# Altium schematic symbol library Oscillators.SchLib: 2 symbols
Pins are listed as number, name and electrical type; pins without a type are passive.

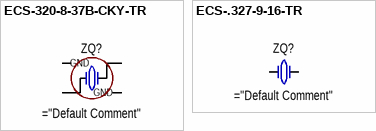
[diagram p0: symbols ECS-320-8-37B-CKY-TR to ECS-.327-9-16-TR]

## ECS-320-8-37B-CKY-TR
designator ZQ?
CRYSTAL 32.0000MHZ 8PF SMD; Manufacturer: ECS Inc.; Part Number: ECS-320-8-37B-CKY-TR; Power Dissipation: * W; Rated Voltage: * V; Rated Current: * A; Tolerance: 10 ppm; Other: 32 MHz ±10ppm Crystal 8pF 50 Ohms 4-SMD, No Lead; Case: 4-SMD; Operating Temperature: -30 °C to +85 °C; Type: Oscillator; HelpURL: https://www.digikey.com/en/products/detail/ecs-inc/ECS-320-8-37B-CKY-TR/9838854; Default Comment: 32.0000 MHz; Rated Power: * W; Value: 32.0000 MHz; Summary: ="Type"+" "+"Part Number"+" "+"Manufacturer"+" "+"Value"+" "+"Tolerance"+" "+"Operating Temperature"+" "+"Case"+" "+"Power Dissipation"+" "+"Rated Current"+" "+"Rated Power"+" "+"Rated Voltage"+" "+"Other"; Assembly: *
footprint ECS-320-8-37B-CKY-TR (32 MHz ±10ppm Crystal 8pF 50 Ohms 4-SMD, No Lead)
pins: 1, 2, 3, 4
text: GND

## ECS-.327-9-16-TR
designator ZQ?
CRYSTAL 32.7680KHZ 9PF SMD; Manufacturer: ECS Inc.; Part Number: ECS-.327-9-16-TR; Default Comment: 32.768 kHz; Power Dissipation: * W; Rated Voltage: * V; Rated Current: * A; Tolerance: 20 ppm; Value: 32.768 kHz; Other: 32.768 kHz ±20ppm Crystal 9pF 90 kOhms 2-SMD, No Lead; Case: 2-SMD; Operating Temperature: -40 °C to +85 °C; Type: Oscillator; HelpURL: https://www.digikey.com/en/products/detail/ecs-inc/ECS-327-9-16-TR/5875558; Rated Power: * W; Summary: ="Type"+" "+"Part Number"+" "+"Manufacturer"+" "+"Value"+" "+"Tolerance"+" "+"Operating Temperature"+" "+"Case"+" "+"Power Dissipation"+" "+"Rated Current"+" "+"Rated Power"+" "+"Rated Voltage"+" "+"Other"; Assembly: *
footprint ECS-.327-9-16-TR (32.768 kHz ±20ppm Crystal 9pF 90 kOhms 2-SMD, No Lead)
pins: 1, 2